# Altium schematic symbol library LED-Yellow.SchLib: 1 symbol
Pins are listed as number, name and electrical type; pins without a type are passive.

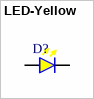
[diagram p0: symbol LED-Yellow]

## LED-Yellow
designator D?  (value not drawn)
pins: A, K